# EAGLE library part MCP23S17 (library HyTechDevices)
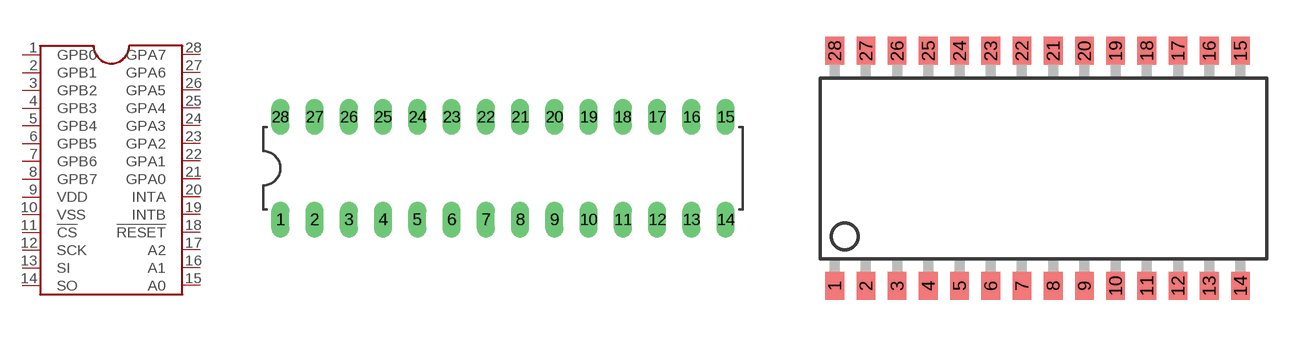
[diagram p95: symbol with the pads of DIL28-3; footprints DIL28-3, SOIC-28W]

Designator prefix -

## MCP23S17DIP  [DIL28-3]
1  GPB0  pas
2  GPB1  pas
3  GPB2  pas
4  GPB3  pas
5  GPB4  pas
6  GPB5  pas
7  GPB6  pas
8  GPB7  pas
9  VDD  pas
10  VSS  pas
11  !CS  pas
12  SCK  pas
13  SI
14  SO
15  A0
16  A1
17  A2  pas
18  !RESET  pas
19  INTB  pas
20  INTA  pas
21  GPA0  pas
22  GPA1  pas
23  GPA2  pas
24  GPA3  pas
25  GPA4  pas
26  GPA5  pas
27  GPA6  pas
28  GPA7  pas

## MCP23S17SOIC_WIDE  [SOIC-28W]
Pads as for DIL28-3

## MCP23S17SSOP28  [SSOP28]
Pads as for DIL28-3

## Footprint DIL28-3 (pad centres in mm)
Standard 28-pin DIP package. IC needs to have legs bent before insertion.
drill 0.813 long: 1 -16.51,-3.81; 2 -13.97,-3.81; 3 -11.43,-3.81; 4 -8.89,-3.81; 5 -6.35,-3.81; 6 -3.81,-3.81; 7 -1.27,-3.81; 8 1.27,-3.81; 9 3.81,-3.81; 10 6.35,-3.81; 11 8.89,-3.81; 12 11.43,-3.81; 13 13.97,-3.81; 14 16.51,-3.81; 15 16.51,3.81; 16 13.97,3.81; 17 11.43,3.81; 18 8.89,3.81; 19 6.35,3.81; 20 3.81,3.81; 21 1.27,3.81; 22 -1.27,3.81; 23 -3.81,3.81; 24 -6.35,3.81; 25 -8.89,3.81; 26 -11.43,3.81; 27 -13.97,3.81; 28 -16.51,3.81

## Footprint SOIC-28W (pad centres in mm)
Small Outline Integrated Circuit
smd 0.762 x 1.143: 1 -8.255,-4.788; 2 -6.985,-4.788; 3 -5.715,-4.788; 4 -4.445,-4.788; 5 -3.175,-4.788; 6 -1.905,-4.788; 7 -0.635,-4.788; 8 0.635,-4.788; 9 1.905,-4.788; 10 3.175,-4.788; 11 4.445,-4.788; 12 5.715,-4.788; 13 6.985,-4.788; 14 8.255,-4.788; 15 8.255,4.788; 16 6.985,4.788; 17 5.715,4.788; 18 4.445,4.788; 19 3.175,4.788; 20 1.905,4.788; 21 0.635,4.788; 22 -0.635,4.788; 23 -1.905,4.788; 24 -3.175,4.788; 25 -4.445,4.788; 26 -5.715,4.788; 27 -6.985,4.788; 28 -8.255,4.788

## Footprint SSOP28 (pad centres in mm)
28-Lead Shrink Small Outline Package SSOP (RS-28) Source: http://www.analog.com/UploadedFiles/Data_Sheets/39677768AD7714_c.pdf
smd 0.4 x 1.5: 1 -4.225,-3.625; 2 -3.575,-3.625; 3 -2.925,-3.625; 4 -2.275,-3.625; 5 -1.625,-3.625; 6 -0.975,-3.625; 7 -0.325,-3.625; 8 0.325,-3.625; 9 0.975,-3.625; 10 1.625,-3.625; 11 2.275,-3.625; 12 2.925,-3.625; 13 3.575,-3.625; 14 4.225,-3.625; 15 4.225,3.625; 16 3.575,3.625; 17 2.925,3.625; 18 2.275,3.625; 19 1.625,3.625; 20 0.975,3.625; 21 0.325,3.625; 22 -0.325,3.625; 23 -0.975,3.625; 24 -1.625,3.625; 25 -2.275,3.625; 26 -2.925,3.625; 27 -3.575,3.625; 28 -4.225,3.625